# Altium schematic symbol library GeneralSchemaLibrary.SchLib: 212 symbols (part 1 of 2)
Pins are listed as number, name and electrical type; pins without a type are passive.

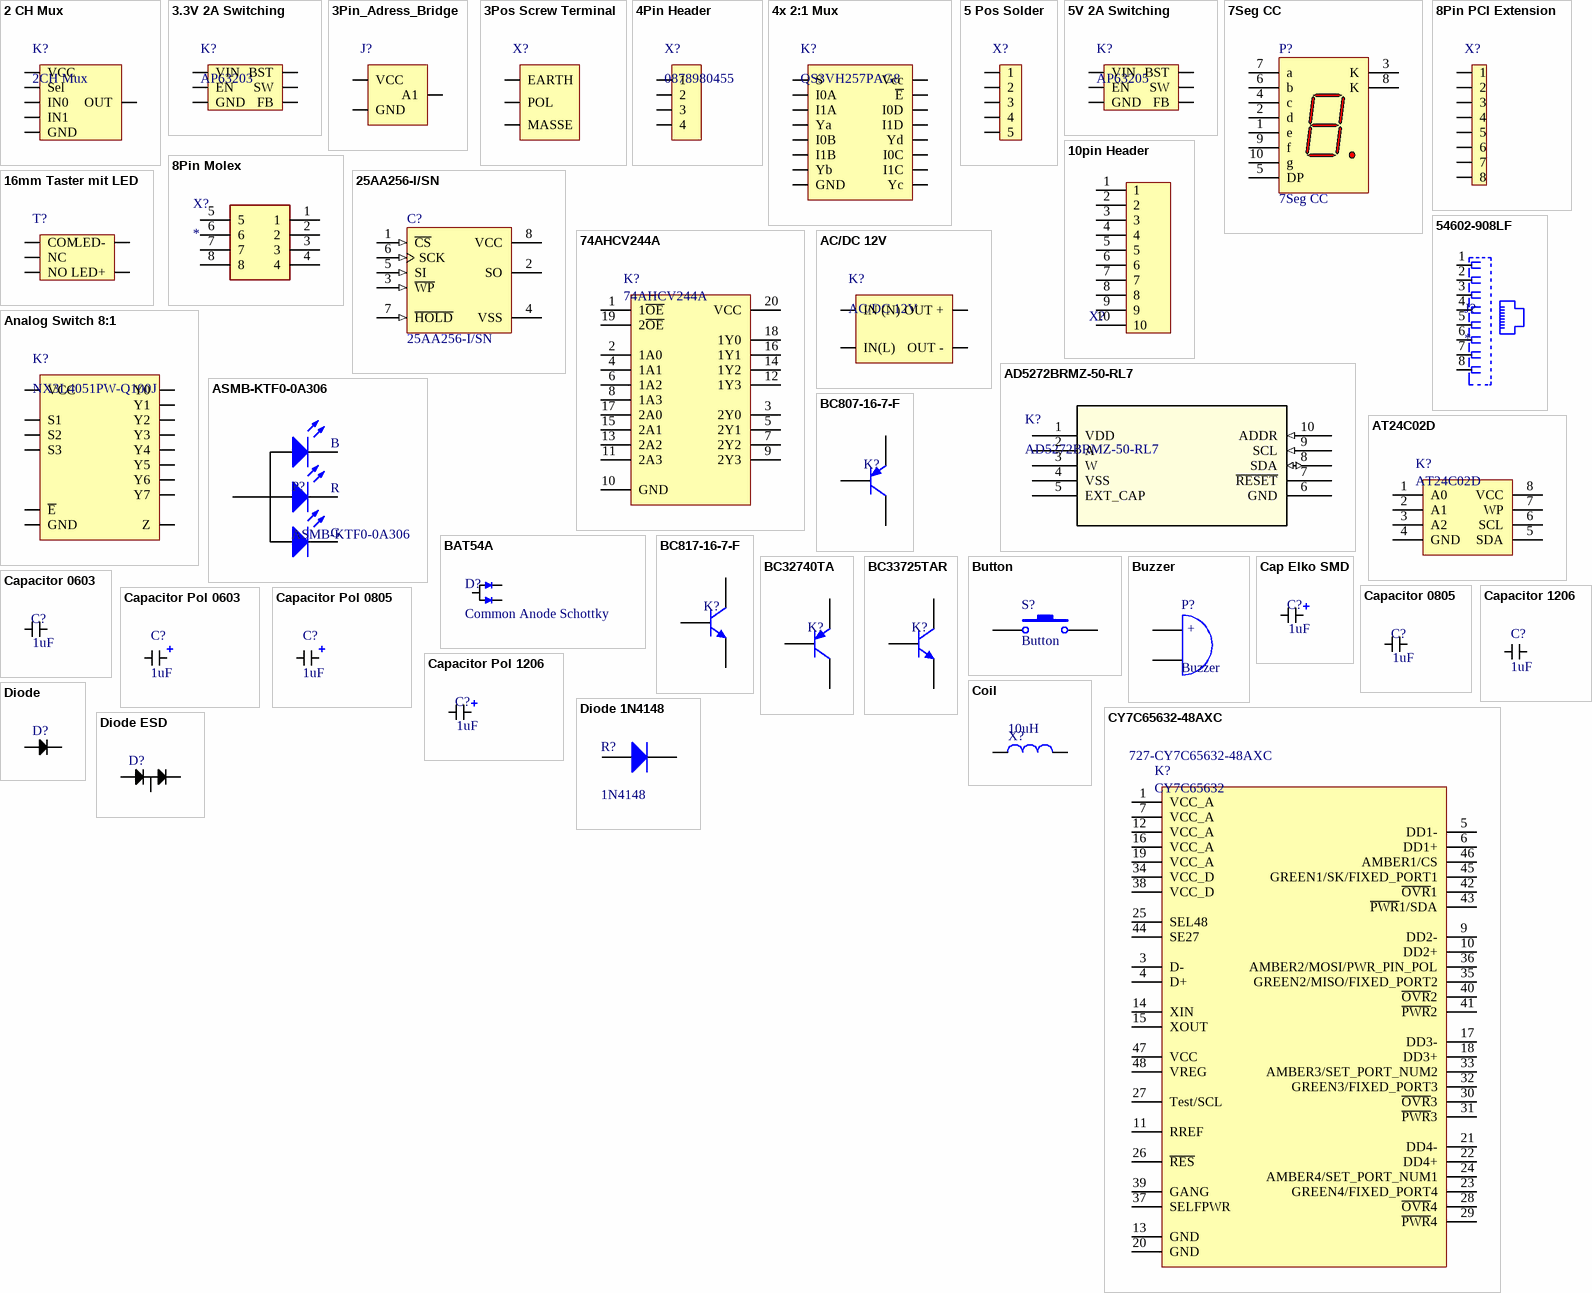
[diagram p0: symbols 2 CH Mux to Diode ESD]

## 2 CH Mux
designator K?, comment 2CH Mux
1727-3490-1-ND
footprint TSOP-6
pins: 1 IN1, 2 GND, 3 IN0, 4 OUT, 5 VCC, 6 Sel

## 3.3V 2A Switching
designator K?, comment AP63203
footprint TSOT26
pins: 1 FB, 2 EN, 3 VIN, 4 GND, 5 SW, 6 BST

## 3Pin_Adress_Bridge
designator J?  (value not drawn)
footprint Address_Bridge
pins: 1 VCC, 2 GND, 3 A1

## 3Pos Screw Terminal
designator X?  (value not drawn)
277-1578-ND
footprint 3Pos Screw Terminal
pins: 1 EARTH, 2 POL, 3 MASSE

## 4Pin Header
designator X?, comment 0878980455
4Pin SMD Header
footprint 4Pin_Header
pins: 1, 2, 3, 4

## 4x 2:1 Mux
designator K?, comment QS3VH257PAG8
footprint TSSOP-16 H (TSSOP-16 for hand soldering)
pins: 1 S, 2 I0A, 3 I1A, 4 Ya, 5 I0B, 6 I1B, 7 Yb, 8 GND, 9 Yc, 10 I1C, 11 I0C, 12 Yd, 13 I1D, 14 I0D, 15 ~{E}, 16 Vcc

## 5 Pos Solder
designator X?, comment Solder Pins on PCB  (value not drawn)
pins: 1, 2, 3, 4, 5

## 5V 2A Switching
designator K?, comment AP63205
footprint TSOT26
pins: 1 FB, 2 EN, 3 VIN, 4 GND, 5 SW, 6 BST

## 7Seg CC
designator P?
Green 7-Segment Display; MinimumIntensity: 860 ucd; Note: IF = 10 mA; Note: Pins 1 and 6 are redundant Cathodes.; Published: 8-Jun-2000; LatestRevisionDate: 17-Dec-2003; LatestRevisionNote: Schematic revised, PCB Footprint replaced.; DatasheetDocument: ##########; PackageDocument: 19-Feb-2002; PackageReference: A; Publisher: Altium Limited; Colour: Green; ComponentLink1Description: Manufacturer Link; ComponentLink1URL: http://www.semiconductor.agilent.com/
simulation model HDSP_A513 (SUBCKT)
footprint 7Seg
pins: 1 e "Anode", 2 d "Anode", 3 K "Cathode", 4 c "Anode", 5 DP "Anode", 6 b "Anode", 7 a "Anode", 8 K "Cathode", 9 f "Anode", 10 g "Anode"

## 8Pin Molex
designator X?
Connector; Manufacturer_Name: Molex; Manufacturer_Part_Number: 45586-0005; Datasheet Link: https://www.mouser.ca/datasheet/2/276/455860005_sd-1360086.pdf; Height: 10.38mm
footprint 8Pin Molex
pins: 1, 2, 3, 4, 5, 6, 7, 8

## 8Pin PCI Extension
designator X?  (value not drawn)
footprint 8 Pos PCI
pins: 1, 2, 3, 4, 5, 6, 7, 8

## 10pin Header
designator X?  (value not drawn)
SMD
footprint 10P_Header
pins: 1, 2, 3, 4, 5, 6, 7, 8, 9, 10

## 16mm Taster mit LED
designator T?  (value not drawn)
footprint Phoenix 5Pos Header (MFR. 1778803)
pins: 1 COM, 2 NC, 3 NO, 4 LED-, 5 LED+

## 25AA256-I/SN
designator C?
256K SPI Bus Serial EEPROM, 8-Pin SOIC, Industrial Temperature; Published: 29-Jan-2009; DatasheetVersion: revF, May-2007; PackageVersion: revBB, Aug-2009; PackageReference: SOIC-SN8; Publisher: Altium Limited; PackageDescription: 8-Lead Plastic Small Outline (SN) - Narrow, 3.90mm Body [SOIC]; Supplier 1: Digi-Key; Supplier Part Number 1: 25AA256-I/SN-ND; Supplier 2: Farnell; Supplier Part Number 2: 1331368; Code_JEDEC: MS-012; Code_IPC: SOIC127P600-8; ComponentLink1Description: Datasheet; ComponentLink1URL: http://ww1.microchip.com/downloads/en/DeviceDoc/21822F.pdf; ComponentLink2Description: Packaging Specification; ComponentLink2URL: http://www.microchip.com/stellent/groups/techpub_sg/documents/packagingspec/en012702.pdf; ComponentLink3Description: Microchip.com Home; ComponentLink3URL: http://www.microchip.com/
footprint SO-8 (Small Outline; 8 Leads; Body Width 3.9 mm; Pitch 1.27 mm)
pins: 1 ~{CS} (in), 2 SO (hiz), 3 ~{WP} (in), 4 VSS (power), 5 SI (in), 6 SCK (in), 7 ~{HOLD} (in), 8 VCC (power)

## 74AHCV244A
designator K?
8 Port line driver; Supplier 1: Mouser; Supplier Part Number 1: 771-74AHCV244APWJ
footprint TSSOP-20 H (TSSOP-20 for hand soldering)
pins: 1 1~{OE}, 2 1A0, 3 2Y0, 4 1A1, 5 2Y1, 6 1A2, 7 2Y2, 8 1A3, 9 2Y3, 10 GND, 11 2A3, 12 1Y3, 13 2A2, 14 1Y2, 15 2A1, 16 1Y1, 17 2A0, 18 1Y0, 19 2~{OE}, 20 VCC

## 54602-908LF
designator J?
Jack Modular Connector 8p8c _RJ45, Ethernet_ 90Â° Angle _Right_ Unshielded Cat3; MP: 54602-908LF; MF: Amphenol ICC; Value: *; SnapEDA_Link: https://www.snapeda.com/parts/54602-908LF/Amphenol%20FCI/view-part/1356963/?ref=snap; Digi-Key_Purchase_URL: https://www.digikey.com.mx/product-detail/en/amphenol-icc-fci/54602-908LF/609-1046-ND/1001360?utm_source=snapeda&utm_medium=aggregator&utm_campaign=symbol; Digi-Key_Part_Number: 609-1046-ND; Package: None
footprint AMPHENOL_54602-908LF
pins: 1, 2, 3, 4, 5, 6, 7, 8

## AC/DC 12V
designator K?
230V AC / 12V DC / 945-3246-ND
footprint AC/DC 12V
pins: 1 IN (N), 2 IN(L), 4 OUT -, 5 OUT +

## AD5272BRMZ-50-RL7
designator K?
I2C Rheostat; Built_By: EMA_Jessica; Vendor: Analog Devices Inc; SourceLibrary: Analog_2019-03-01; Copyright: Copyright (C) 2018 Accelerated Designs. All rights reserved; Manufacturer_Part_Number: AD5272BRMZ-50-RL7; RefDes: RefDes; Type: DEV
footprint 10-MSOP
pins: 1 VDD (power), 2 A, 3 W, 4 VSS (power), 5 EXT_CAP, 6 GND (power), 7 ~{RESET}, 8 SDA (io), 9 SCL (in), 10 ADDR (in)

## Analog Switch 8:1
designator K?, comment NX3L4051PW-Q100J
footprint TSSOP-16 H (TSSOP-16 for hand soldering)
pins: 1 Y4, 2 Y6, 3 Z, 4 Y7, 5 Y5, 6 ~{E}, 7 NC hidden, 8 GND, 9 S3, 10 S2, 11 S1, 12 Y3, 13 Y0, 14 Y1, 15 Y2, 16 VCC

## ASMB-KTF0-0A306
designator P?
RGB LED SMD; LatestRevisionDate: 03.04.2019; Publisher: ICT Berufsbildungscenter AG; Supplier 1: Mouser; Supplier Part Number 1: 630-ASMB-KTF0-0A306
footprint LED ASMB-KTF0-0A306 H (ASMB-KTF0-0A306  SMD RGB LED for hand soldering)
pins: 1 Common Anode, 2 Red Cathode, 3 Green Cathode, 4 Blue Cathode
text: B; R; G

## AT24C02D
designator K?
EEPROM 2kbit I2C; Supplier 1: Mouser; Supplier Part Number 1: 556-AT24C02D-SSHM-B
footprint SOIC-8 N H (Narrow (150mil) SOIC with 8 pins for hand soldering)
pins: 1 A0, 2 A1, 3 A2, 4 GND, 5 SDA, 6 SCL, 7 WP, 8 VCC

## BAT54A
designator D?, comment Common Anode Schottky
20V
footprint SOT23-3
pins: 1, 2, 3

## BC807-16-7-F
designator K?  (value not drawn)
Transistor PNP in SOT23-3 package; Supplier 1: Mouser; Supplier Part Number 1: 621-BC807-16-7-F
footprint SOT23-3
pins: 1 B, 2 E, 3 C

## BC817-16-7-F
designator K?  (value not drawn)
Transistor NPN in SOT23-3 package; Supplier 1: Mouser; Supplier Part Number 1: 621-BC817-16-7-F
footprint SOT23-3
pins: 1 B, 2 E, 3 C

## BC32740TA
designator K?  (value not drawn)
Transistor PNP in TO-92 package; Supplier 1: Mouser; Supplier Part Number 1: 512-BC32740TA
footprint TO-92
pins: 1 C, 2 B, 3 E

## BC33725TAR
designator K?  (value not drawn)
Transistor NPN in TO-92 package; Supplier 1: Mouser; Supplier Part Number 1: 512-BC33725TAR
footprint TO-92
pins: 1 C, 2 B, 3 E

## Button
designator S?
Published: 04.10.2019; LatestRevisionDate: 04.10.2019; Publisher: ICT Berufsbildungscenter AG
pins: 1, 2

## Buzzer
designator P?
Piezo Buzzer; Published: 03.10.2019; LatestRevisionDate: 03.10.2019; Publisher: ICT Berufsbildungscenter AG
footprint Buzzer THT 6.5mm (piezo buzzer / tht mount / 3.5mm pitch)
pins: 1 A, 2 B
text: +

## Cap Elko SMD
designator C?  value 1uF
footprint CAP ELKO G H (aluminium electrolytic capacitor surface mount case G)
footprint CAP ELKO B H (aluminium electrolytic capacitor surface mount case B)
footprint CAP ELKO D H (aluminium electrolytic capacitor surface mount case D)
footprint CAP ELKO K16 H (aluminium electrolytic capacitor surface mount case K16)
pins: 1, 2

## Capacitor 0603
designator C?  value 1uF
footprint CAP CER 0603 H (0603 ceramic capacitor for hand soldering)
pins: 1, 2

## Capacitor 0805
designator C?  value 1uF
footprint CAP CER 0805 H (0805 ceramic capacitor for hand soldering)
pins: 1, 2

## Capacitor 1206
designator C?  value 1uF
footprint CAP CER 1206 H (1206 ceramic capacitor for hand soldering)
pins: 1, 2

## Capacitor Pol 0603
designator C?  value 1uF
footprint 0603 Pol
pins: 1, 2

## Capacitor Pol 0805
designator C?  value 1uF
footprint 0805 Pol
pins: 1, 2

## Capacitor Pol 1206
designator C?  value 1uF
footprint 1206 Pol
pins: 1, 2

## Coil
designator X?  value 10uH  (hidden comment: *)
footprint Ind 4.7uH (SMD)
footprint IND 33uH
pins: 1, 2

## CY7C65632-48AXC
designator K?, comment CY7C65632  Supplier Part Number 1: 727-CY7C65632-48AXC
4 port usb hub; Supplier 1: Mouser
footprint TQFP 48
pins: 1 VCC_A, 3 D-, 4 D+, 5 DD1-, 6 DD1+, 7 VCC_A, 9 DD2-, 10 DD2+, 11 RREF, 12 VCC_A, 13 GND, 14 XIN, 15 XOUT, 16 VCC_A, 17 DD3-, 18 DD3+, 19 VCC_A, 20 GND, 21 DD4-, 22 DD4+, 23 GREEN4/FIXED_PORT4, 24 AMBER4/SET_PORT_NUM1, 25 SEL48, 26 ~{RES}, 27 Test/SCL, 28 ~{OVR}4, 29 ~{PWR}4, 30 ~{OVR}3, 31 ~{PWR}3, 32 GREEN3/FIXED_PORT3, 33 AMBER3/SET_PORT_NUM2, 34 VCC_D, 35 GREEN2/MISO/FIXED_PORT2, 36 AMBER2/MOSI/PWR_PIN_POL, 37 SELFPWR, 38 VCC_D, 39 GANG, 40 ~{OVR}2, 41 ~{PWR}2, 42 ~{OVR}1, 43 ~{PWR}1/SDA, 44 SE27, 45 GREEN1/SK/FIXED_PORT1, 46 AMBER1/CS, 47 VCC, 48 VREG

## Diode
designator D?  (value not drawn)
footprint SOD-123
pins: 1, 2

## Diode 1N4148
designator R?, comment 1N4148
Diode 1N4148; Published: 8-Jun-2000; LatestRevisionDate: 17-Jul-2002; LatestRevisionNote: Re-released for DXP Platform.; PackageVersion: Sep-1996; PackageReference: SMC; Publisher: Altium Limited; PackageDescription: DO-214-AB/SMC; 2 C-Bend Leads; Body 7.9 x 5.9 mm, inc. leads (LxW); Code_JEDEC: DO-214-AB
footprint SOD-123
pins: 1 A, 2 K

## Diode ESD
designator D?  (value not drawn)
BAV199 SOT-23-3
footprint SOT23-3
pins: 1, 2, 3

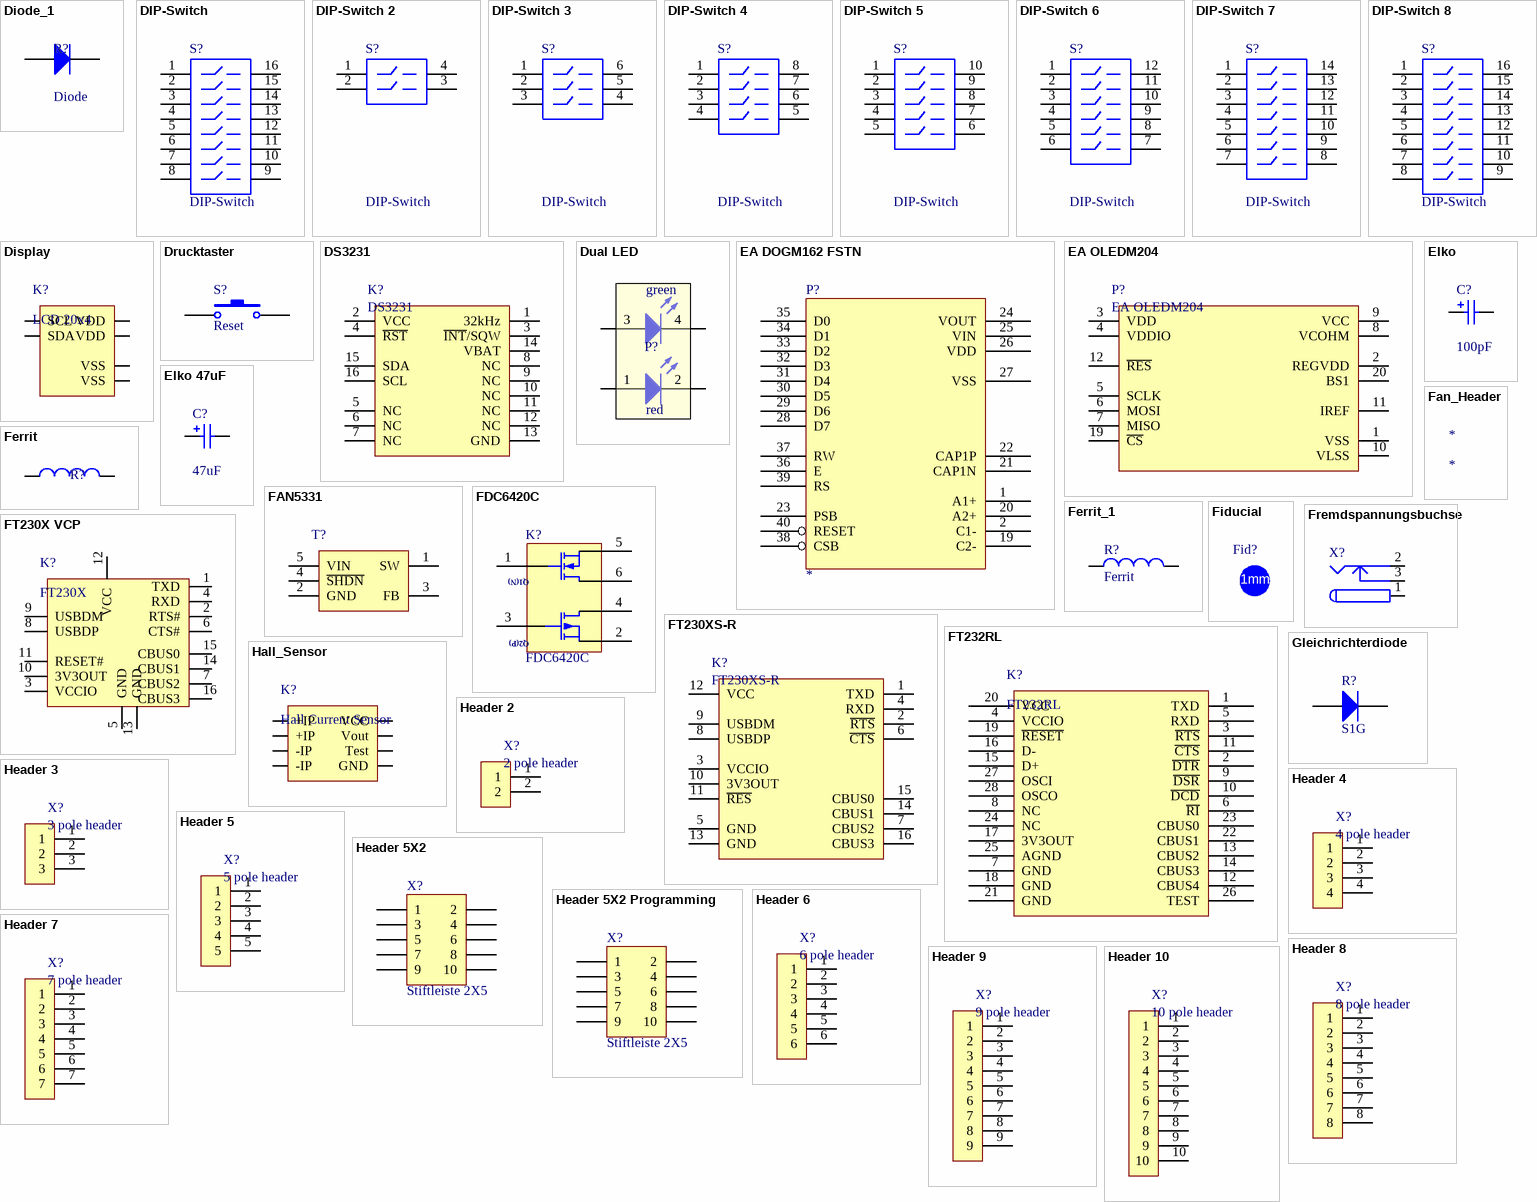
[diagram p1: symbols Diode_1 to Header 10]

## Diode_1
designator R?, comment Diode
LatestRevisionDate: 03.04.2019; Publisher: ICT Berufsbildungscenter AG
footprint Diode 5mm (Diode for tht mounting with a 5mm pitch)
footprint Diode 7.5mm (Diode for tht mounting with a 7.5mm pitch)
footprint Diode 10mm (Diode for tht mounting with a 10mm pitch)
footprint Diode 12.5mm (Diode for tht mounting with a 12.5mm pitch)
footprint Diode SOD123 H (Diode in SOD123 Case for hand soldering)
footprint Diode SOD123 R (Diode in SOD123 Case for reflow soldering)
footprint Diode DO-214AA SMB H (Diode in DO-214AA (same as SMB) package for hand soldering)
footprint Diode DO-214AB SMC H (Diode in DO-214AB (same as SMC) package for hand soldering)
footprint Diode DO-214AC SMA H (Diode in DO-214AC (same as SMA) package for hand soldering)
footprint Diode DO-214AA SMB R (Diode in DO-214AA (same as SMB) package for reflow soldering)
footprint Diode DO-214AB SMC R (Diode in DO-214AB (same as SMC) package for reflow soldering)
footprint Diode DO-214AC SMA R (Diode in DO-214AC (same as SMA) package for reflow soldering)
pins: A Anode, C Cathode

## DIP-Switch
designator S?
4009 Series DIP Switch, Raised actuator; Published: 24-Mar-1999; LatestRevisionDate: 17-Dec-2003; LatestRevisionNote: PCB Footprint replaced.; PackageReference: DIP-16-KEY; Publisher: Altium Limited; PackageDescription: DIP; 16 Leads; Row Spacing 7.62 mm; Pitch 2.54 mm; ComponentLink1Description: Manufacturer Link; ComponentLink1URL: http://www.oupiin.com/prodindx.html#Headers
simulation model dpsw8 (Spice Subcircuit)
footprint DIP-SWITCH
pins: 1, 2, 3, 4, 5, 6, 7, 8, 9, 10, 11, 12, 13, 14, 15, 16

## DIP-Switch 2
designator S?, comment DIP-Switch
Dip Switch with 2 switches; Published: 03.10.2019; LatestRevisionDate: 03.10.2019; Publisher: ICT Berufsbildungscenter AG; ComponentLink1Description: Manufacturer Link; ComponentLink1URL: http://www.oupiin.com/prodindx.html#Headers
footprint DIP Switch SMD 2 H (Dipswitch for surface mount / hand soldering)
pins: 1, 2, 3, 4

## DIP-Switch 3
designator S?, comment DIP-Switch
Dip Switch with 3 switches; Published: 03.10.2019; LatestRevisionDate: 03.10.2019; Publisher: ICT Berufsbildungscenter AG; ComponentLink1Description: Manufacturer Link; ComponentLink1URL: http://www.oupiin.com/prodindx.html#Headers
footprint DIP Switch SMD 3 H (Dipswitch for surface mount / hand soldering)
pins: 1, 2, 3, 4, 5, 6

## DIP-Switch 4
designator S?, comment DIP-Switch
Dip Switch with 4 switches; Published: 03.10.2019; LatestRevisionDate: 03.10.2019; Publisher: ICT Berufsbildungscenter AG; ComponentLink1Description: Manufacturer Link; ComponentLink1URL: http://www.oupiin.com/prodindx.html#Headers
footprint DIP Switch SMD 4 H (Dipswitch for surface mount / hand soldering)
pins: 1, 2, 3, 4, 5, 6, 7, 8

## DIP-Switch 5
designator S?, comment DIP-Switch
Dip Switch with 5 switches; Published: 03.10.2019; LatestRevisionDate: 03.10.2019; Publisher: ICT Berufsbildungscenter AG; ComponentLink1Description: Manufacturer Link; ComponentLink1URL: http://www.oupiin.com/prodindx.html#Headers
footprint DIP Switch SMD 5 H (Dipswitch for surface mount / hand soldering)
pins: 1, 2, 3, 4, 5, 6, 7, 8, 9, 10

## DIP-Switch 6
designator S?, comment DIP-Switch
Dip Switch with 6 switches; Published: 03.10.2019; LatestRevisionDate: 03.10.2019; Publisher: ICT Berufsbildungscenter AG; ComponentLink1Description: Manufacturer Link; ComponentLink1URL: http://www.oupiin.com/prodindx.html#Headers
footprint DIP Switch SMD 6 H (Dipswitch for surface mount / hand soldering)
pins: 1, 2, 3, 4, 5, 6, 7, 8, 9, 10, 11, 12

## DIP-Switch 7
designator S?, comment DIP-Switch
Dip Switch with 7 switches; Published: 03.10.2019; LatestRevisionDate: 03.10.2019; Publisher: ICT Berufsbildungscenter AG; ComponentLink1Description: Manufacturer Link; ComponentLink1URL: http://www.oupiin.com/prodindx.html#Headers
footprint DIP Switch SMD 7 H (Dipswitch for surface mount / hand soldering)
pins: 1, 2, 3, 4, 5, 6, 7, 8, 9, 10, 11, 12, 13, 14

## DIP-Switch 8
designator S?, comment DIP-Switch
Dip Switch with 8 switches; Published: 03.10.2019; LatestRevisionDate: 03.10.2019; Publisher: ICT Berufsbildungscenter AG; ComponentLink1Description: Manufacturer Link; ComponentLink1URL: http://www.oupiin.com/prodindx.html#Headers
footprint DIP Switch SMD 8 H (Dipswitch for surface mount / hand soldering)
pins: 1, 2, 3, 4, 5, 6, 7, 8, 9, 10, 11, 12, 13, 14, 15, 16

## Display
designator K?, comment LCD 20x4
NHD-0420D3Z-NSW-BBW-V3
footprint Phoenix 4Pos Header (MFR. 1778780)
pins: 1 SCL, 2 SDA, 3 VSS, 3 VSS "NHD-0420D3Z-NSW-BBW-V3", 4 VDD, 4 VDD

## Drucktaster
designator S?, comment Reset
Drucktaster; Published: 24-Mar-1999; LatestRevisionDate: 17-Jul-2002; LatestRevisionNote: Re-released for DXP Platform.; PackageReference: SPST-2; Publisher: Altium Limited; PackageDescription: Switch; 2 Leads
footprint Resettaster
pins: 1, 2

## DS3231
designator K?
Real Time Clock; Supplier 1: Farnell; Supplier 2: Mouser; Supplier Part Number 1: 2798760; Supplier Part Number 2: 700-DS3231SN#T&R-
footprint SOIC-16 W H (Wide (300mil) SOIC with 16 pins for hand soldering)
pins: 1 32kHz, 2 VCC, 3 ~{INT}/SQW, 4 ~{RST}, 5 NC, 6 NC, 7 NC, 8 NC, 9 NC, 10 NC, 11 NC, 12 NC, 13 GND, 14 VBAT, 15 SDA, 16 SCL

## Dual LED
designator P?, comment Dual-LED Rot/Grün  (value not drawn)
Typical INFRARED GaAs LED; Published: 8-Jun-2000; LatestRevisionDate: 08-Jul-2005; LatestRevisionNote: Mech Layer 1 removed.; PackageReference: LED-0; Publisher: Altium Limited; PackageDescription: LED; 2 Leads
simulation model LED0 (Diode)
footprint DUAL LED
pins: 1 A, 2 K, 3 A, 4 K
text: green; red

## EA DOGM162 FSTN
designator P?
footprint EA DOGMxxx-A
pins: 1 A1+, 2 C1-, 19 C2-, 20 A2+, 21 CAP1N, 22 CAP1P, 23 PSB, 24 VOUT, 25 VIN, 26 VDD, 27 VSS, 28 D7, 29 D6, 30 D5, 31 D4, 32 D3, 33 D2, 34 D1, 35 D0, 36 E, 37 RW, 38 CSB, 39 RS, 40 RESET

## EA OLEDM204
designator P?
4x20 OLED Textdisplay; Publisher: ICT Berufsbildungscenter AG; LatestRevisionDate: 03.10.2019; Published: 03.10.2019; Supplier 1: Distrelec; Supplier Part Number 1: 30117338
footprint EA OLEDM204
pins: 1 VSS, 2 REGVDD, 3 VDD, 4 VDDIO, 5 SCLK, 6 MOSI, 7 MISO, 8 VCOHM, 9 VCC, 10 VLSS, 11 IREF, 12 ~{RES}, 19 ~{CS}, 20 BS1

## Elko
designator C?  value 100pF
Polarized Capacitor; Published: 8-Jun-2000; LatestRevisionDate: 17-Jul-2002; LatestRevisionNote: Re-released for DXP Platform.; PackageReference: POLAR0.8; Publisher: Altium Limited; PackageDescription: Polarized Capacitor; 2 Leads
simulation model CAP (Capacitor)
signal-integrity model Cap Pol
footprint C_Tantal_A
pins: 1, 2

## Elko 47uF
designator C?  value 47uF
Polarized Capacitor; Published: 8-Jun-2000; LatestRevisionDate: 17-Jul-2002; LatestRevisionNote: Re-released for DXP Platform.; PackageReference: POLAR0.8; Publisher: Altium Limited; PackageDescription: Polarized Capacitor; 2 Leads
simulation model CAP (Capacitor)
signal-integrity model Cap Pol
footprint C_Tantal_D
pins: 1, 2

## FAN5331
designator T?  (value not drawn)
Boost Converter with configurable output voltage; Supplier 1: Mouser; Supplier 2: Farnell; Supplier Part Number 1: 512-FAN5331SX; Supplier Part Number 2: 1858084
footprint SOT23-5
pins: 1 SW, 2 GND, 3 FB, 4 ~{SHDN}, 5 VIN

## Fan_Header
designator *

## FDC6420C
designator K?
DUAL FET
footprint SOT23-6 (SOT-23/SC-74A; 5 Leads; Body 3.1 x 3 mm, inc. leads (LxW max))
pins: 1 G, 2 S, 3 G, 4 D, 5 S, 6 S
text: Q1(N); Q2(P)

## Ferrit
designator R?  (value not drawn)
LatestRevisionDate: 26.09.2019; Publisher: ICT Berufsbildungscenter AG; Published: 03.10.2019
pins: 1, 2

## Ferrit_1
designator R?, comment Ferrit
Spule; Code_IEC: 1005; Value: 100uH; Published: 8-Jun-2000; LatestRevisionDate: 29-May-2009; LatestRevisionNote: IPC-7351 Footprint Added.; PackageReference: 0402-A; Publisher: Altium Limited; PackageDescription: Chip Inductor; Code_JEITA: 0402
footprint Cap 0805
pins: 1, 2

## Fiducial
designator Fid?  (value not drawn)
Fiducial
footprint Fiducial
text: 1mm

## Fremdspannungsbuchse
designator X?  (value not drawn)
Published: 17-Dec-2003; DatasheetDocument: 09-May-2002; Publisher: Altium Limited; ComponentLink1Description: Manufacturer Link; ComponentLink1URL: http://domino.kycon.com/internet/Products.html
footprint Spannungsbuchse
pins: 1 (power), 2 (power), 3 (power)

## FT230X VCP
designator K?, comment FT230X
pins: 1 TXD, 2 RTS#, 3 VCCIO, 4 RXD, 5 GND, 6 CTS#, 7 CBUS2, 8 USBDP, 9 USBDM, 10 3V3OUT, 11 RESET#, 12 VCC, 13 GND, 14 CBUS1, 15 CBUS0, 16 CBUS3

## FT230XS-R
designator K?
USB - UART converter; Supplier 1: Mouser; Supplier Part Number 1: 895-FT230XS-R
footprint TSSOP-16 H (TSSOP-16 for hand soldering)
pins: 1 TXD, 2 ~{RTS}, 3 VCCIO, 4 RXD, 5 GND, 6 ~{CTS}, 7 CBUS2, 8 USBDP, 9 USBDM, 10 3V3OUT, 11 ~{RES}, 12 VCC, 13 GND, 14 CBUS1, 15 CBUS0, 16 CBUS3

## FT232RL
designator K?
footprint SSOP-28 H (SSOP-28 for hand soldering)
pins: 1 TXD, 2 ~{DTR}, 3 ~{RTS}, 4 VCCIO, 5 RXD, 6 ~{RI}, 7 GND, 8 NC, 9 ~{DSR}, 10 ~{DCD}, 11 ~{CTS}, 12 CBUS4, 13 CBUS2, 14 CBUS3, 15 D+, 16 D-, 17 3V3OUT, 18 GND, 19 ~{RESET}, 20 VCC, 21 GND, 22 CBUS1, 23 CBUS0, 24 NC, 25 AGND, 26 TEST, 27 OSCI, 28 OSCO

## Gleichrichterdiode
designator R?, comment S1G
Gleichrichterdiode; Published: 8-Jun-2000; LatestRevisionDate: 17-Jul-2002; LatestRevisionNote: Re-released for DXP Platform.; PackageVersion: Sep-1996; PackageReference: SMC; Publisher: Altium Limited; PackageDescription: DO-214-AB/SMC; 2 C-Bend Leads; Body 7.9 x 5.9 mm, inc. leads (LxW); Code_JEDEC: DO-214-AB
footprint DO-214
pins: 1 A, 2 K

## Hall_Sensor
designator K?, comment Hall Current Sensor
ACS723LLCTR-20AB-T
footprint SOIC - 8 Hall Sensor (ACS724LLCTR-20AB-T)
pins: 1 +IP, 2 +IP, 3 -IP, 4 -IP, 5 GND, 6 Test, 7 Vout, 8 VCC, 9

## Header 2
designator X?, comment 2 pole header
board to board header; LatestRevisionDate: 02.05.2019; Publisher: ICT Berufsbildungscenter AG
footprint Header THT female 1x2 (header for tht mounting / pitch = 2.54mm)
footprint Header THT female 1x2 RA (right angled header for tht mounting / pitch = 2.54mm)
footprint Header THT male 1x2 (header for tht mounting / pitch = 2.54mm)
footprint Header THT male 1x2 RA (right angle header for tht mounting / pitch = 2.54mm)
footprint Header SMD Male 1x2 R (male header for smd mounting / pitch = 2.54mm / reflow soldering)
footprint Header SMD Male 2x1 R (male header for smd mounting / pitch = 2.54mm / reflow soldering)
footprint Header SMD Male 1x2 H (male header for smd mounting / pitch = 2.54mm / hand soldering)
footprint Header SMD Male 2x1 H (male header for smd mounting / pitch = 2.54mm / hand soldering)
footprint Header SMD Male 1x2 RA H (right angled male header for smd mounting / pitch = 2.54mm / hand soldering)
pins: 1, 2

## Header 3
designator X?, comment 3 pole header
board to board header; LatestRevisionDate: 02.05.2019; Publisher: ICT Berufsbildungscenter AG
footprint Header THT female 1x3 (header for tht mounting / pitch = 2.54mm)
footprint Header THT female 1x3 RA (right angled header for tht mounting / pitch = 2.54mm)
footprint Header THT male 1x3 (header for tht mounting / pitch = 2.54mm)
footprint Header THT male 1x3 RA (right angle header for tht mounting / pitch = 2.54mm)
footprint Header SMD Male 1x3 R (male header for smd mounting / pitch = 2.54mm / reflow soldering)
footprint Header SMD Male 1x3 H (male header for smd mounting / pitch = 2.54mm / hand soldering)
footprint Header SMD Male 1x3 RA H (right angled male header for smd mounting / pitch = 2.54mm / hand soldering)
pins: 1, 2, 3

## Header 4
designator X?, comment 4 pole header
board to board header; LatestRevisionDate: 02.05.2019; Publisher: ICT Berufsbildungscenter AG
footprint Header THT female 1x4 (header for tht mounting / pitch = 2.54mm)
footprint Header THT female 1x4 RA (right angled header for tht mounting / pitch = 2.54mm)
footprint Header THT female 2x2 (header for tht mounting / pitch = 2.54mm)
footprint Header THT female 2x2 RA (right angled header for tht mounting / pitch = 2.54mm)
footprint Header THT male 1x4 RA (right angle header for tht mounting / pitch = 2.54mm)
footprint Header THT male 2x2 (header for tht mounting / pitch = 2.54mm)
footprint Header THT male 2x2 RA (right angle header for tht mounting / pitch = 2.54mm)
footprint Header THT male 1x4 (header for tht mounting / pitch = 2.54mm)
footprint Header SMD Male 1x4 R (male header for smd mounting / pitch = 2.54mm / reflow soldering)
footprint Header SMD Male 2x2 R (male header for smd mounting / pitch = 2.54mm / reflow soldering)
footprint Header SMD Male 1x4 H (male header for smd mounting / pitch = 2.54mm / hand soldering)
footprint Header SMD Male 2x2 H (male header for smd mounting / pitch = 2.54mm / hand soldering)
footprint Header SMD Male 1x4 RA H (right angled male header for smd mounting / pitch = 2.54mm / hand soldering)
pins: 1, 2, 3, 4

## Header 5
designator X?, comment 5 pole header
board to board header; LatestRevisionDate: 02.05.2019; Publisher: ICT Berufsbildungscenter AG
footprint Header THT female 1x5 (header for tht mounting / pitch = 2.54mm)
footprint Header THT female 1x5 RA (right angled header for tht mounting / pitch = 2.54mm)
footprint Header THT male 1x5 (header for tht mounting / pitch = 2.54mm)
footprint Header THT male 1x5 RA (right angle header for tht mounting / pitch = 2.54mm)
footprint Header SMD Male 1x5 R (male header for smd mounting / pitch = 2.54mm / reflow soldering)
footprint Header SMD Male 1x5 H (male header for smd mounting / pitch = 2.54mm / hand soldering)
footprint Header SMD Male 1x5 RA H (right angled male header for smd mounting / pitch = 2.54mm / hand soldering)
pins: 1, 2, 3, 4, 5

## Header 5X2
designator X?, comment Stiftleiste 2X5
Header, 5-Pin, Dual row; LatestRevisionDate: 17-Jul-2002; LatestRevisionNote: Re-released for DXP Platform.; Publisher: Altium Limited
footprint Stiftleiste 2x5 (Connector; Header; 5x2 Position)
pins: 1, 2, 3, 4, 5, 6, 7, 8, 9, 10

## Header 5X2 Programming
designator X?, comment Stiftleiste 2X5
Header, 5-Pin, Dual row; LatestRevisionDate: 17-Jul-2002; LatestRevisionNote: Re-released for DXP Platform.; Publisher: Altium Limited
footprint Stiftleiste 2x5 - Programming (Connector; Header; 5x2 Position)
pins: 1, 2, 3, 4, 5, 6, 7, 8, 9, 10

## Header 6
designator X?, comment 6 pole header
board to board header; LatestRevisionDate: 02.05.2019; Publisher: ICT Berufsbildungscenter AG
footprint Header THT female 1x6 (header for tht mounting / pitch = 2.54mm)
footprint Header THT female 1x6 RA (right angled header for tht mounting / pitch = 2.54mm)
footprint Header THT female 2x3 (header for tht mounting / pitch = 2.54mm)
footprint Header THT female 2x3 RA (right angled header for tht mounting / pitch = 2.54mm)
footprint Header THT male 1x6 (header for tht mounting / pitch = 2.54mm)
footprint Header THT male 1x6 RA (right angle header for tht mounting / pitch = 2.54mm)
footprint Header THT male 2x3 (header for tht mounting / pitch = 2.54mm)
footprint Header THT male 2x3 RA (right angle header for tht mounting / pitch = 2.54mm)
footprint Header SMD Male 1x6 H (male header for smd mounting / pitch = 2.54mm / hand soldering)
footprint Header SMD Male 1x6 R (male header for smd mounting / pitch = 2.54mm / reflow soldering)
footprint Header SMD Male 2x3 H (male header for smd mounting / pitch = 2.54mm / hand soldering)
footprint Header SMD Male 2x3 R (male header for smd mounting / pitch = 2.54mm / reflow soldering)
footprint Header SMD Male 1x6 RA H (right angled male header for smd mounting / pitch = 2.54mm / hand soldering)
pins: 1, 2, 3, 4, 5, 6

## Header 7
designator X?, comment 7 pole header
board to board header; LatestRevisionDate: 02.05.2019; Publisher: ICT Berufsbildungscenter AG
footprint Header THT female 1x7 (header for tht mounting / pitch = 2.54mm)
footprint Header THT female 1x7 RA (right angled header for tht mounting / pitch = 2.54mm)
footprint Header THT male 1x7 (header for tht mounting / pitch = 2.54mm)
footprint Header THT male 1x7 RA (right angle header for tht mounting / pitch = 2.54mm)
footprint Header SMD Male 1x7 H (male header for smd mounting / pitch = 2.54mm / hand soldering)
footprint Header SMD Male 1x7 R (male header for smd mounting / pitch = 2.54mm / reflow soldering)
footprint Header SMD Male 1x7 RA H (right angled male header for smd mounting / pitch = 2.54mm / hand soldering)
pins: 1, 2, 3, 4, 5, 6, 7

## Header 8
designator X?, comment 8 pole header
board to board header; LatestRevisionDate: 02.05.2019; Publisher: ICT Berufsbildungscenter AG
footprint Header THT female 1x8 (header for tht mounting / pitch = 2.54mm)
footprint Header THT female 1x8 RA (right angled header for tht mounting / pitch = 2.54mm)
footprint Header THT female 2x4 (header for tht mounting / pitch = 2.54mm)
footprint Header THT female 2x4 RA (right angled header for tht mounting / pitch = 2.54mm)
footprint Header THT male 1x8 (header for tht mounting / pitch = 2.54mm)
footprint Header THT male 1x8 RA (right angle header for tht mounting / pitch = 2.54mm)
footprint Header THT male 2x4 (header for tht mounting / pitch = 2.54mm)
footprint Header THT male 2x4 RA (right angle header for tht mounting / pitch = 2.54mm)
footprint Header SMD Male 1x8 H (male header for smd mounting / pitch = 2.54mm / hand soldering)
footprint Header SMD Male 1x8 R (male header for smd mounting / pitch = 2.54mm / reflow soldering)
footprint Header SMD Male 2x4 H (male header for smd mounting / pitch = 2.54mm / hand soldering)
footprint Header SMD Male 2x4 R (male header for smd mounting / pitch = 2.54mm / reflow soldering)
footprint Header SMD Male 1x8 RA H (right angled male header for smd mounting / pitch = 2.54mm / hand soldering)
pins: 1, 2, 3, 4, 5, 6, 7, 8

## Header 9
designator X?, comment 9 pole header
board to board header; LatestRevisionDate: 02.05.2019; Publisher: ICT Berufsbildungscenter AG
footprint Header THT female 1x9 (header for tht mounting / pitch = 2.54mm)
footprint Header THT female 1x9 RA (right angled header for tht mounting / pitch = 2.54mm)
footprint Header THT male 1x9 (header for tht mounting / pitch = 2.54mm)
footprint Header THT male 1x9 RA (right angle header for tht mounting / pitch = 2.54mm)
footprint Header SMD Male 1x9 H (male header for smd mounting / pitch = 2.54mm / hand soldering)
footprint Header SMD Male 1x9 R (male header for smd mounting / pitch = 2.54mm / reflow soldering)
footprint Header SMD Male 1x9 RA H (right angled male header for smd mounting / pitch = 2.54mm / hand soldering)
pins: 1, 2, 3, 4, 5, 6, 7, 8, 9

## Header 10
designator X?, comment 10 pole header
board to board header; LatestRevisionDate: 02.05.2019; Publisher: ICT Berufsbildungscenter AG
footprint Header THT female 2x5 (header for tht mounting / pitch = 2.54mm)
footprint Header THT female 2x5 RA (right angled header for tht mounting / pitch = 2.54mm)
footprint Header THT male 1x10 (header for tht mounting / pitch = 2.54mm)
footprint Header THT male 1x10 RA (right angle header for tht mounting / pitch = 2.54mm)
footprint Header THT male 2x5 (header for tht mounting / pitch = 2.54mm)
footprint Header THT male 2x5 RA (right angle header for tht mounting / pitch = 2.54mm)
footprint Header THT female 1x10 (header for tht mounting / pitch = 2.54mm)
footprint Header THT female 1x10 RA (right angled header for tht mounting / pitch = 2.54mm)
footprint Header SMD Male 1x10 H (male header for smd mounting / pitch = 2.54mm / hand soldering)
footprint Header SMD Male 1x10 R (male header for smd mounting / pitch = 2.54mm / reflow soldering)
footprint Header SMD Male 2x5 H (male header for smd mounting / pitch = 2.54mm / hand soldering / hand soldering)
footprint Header SMD Male 2x5 R (male header for smd mounting / pitch = 2.54mm / hand soldering / reflow soldering)
footprint Header SMD Male 1x10 RA H (right angled male header for smd mounting / pitch = 2.54mm / hand soldering)
pins: 1, 2, 3, 4, 5, 6, 7, 8, 9, 10

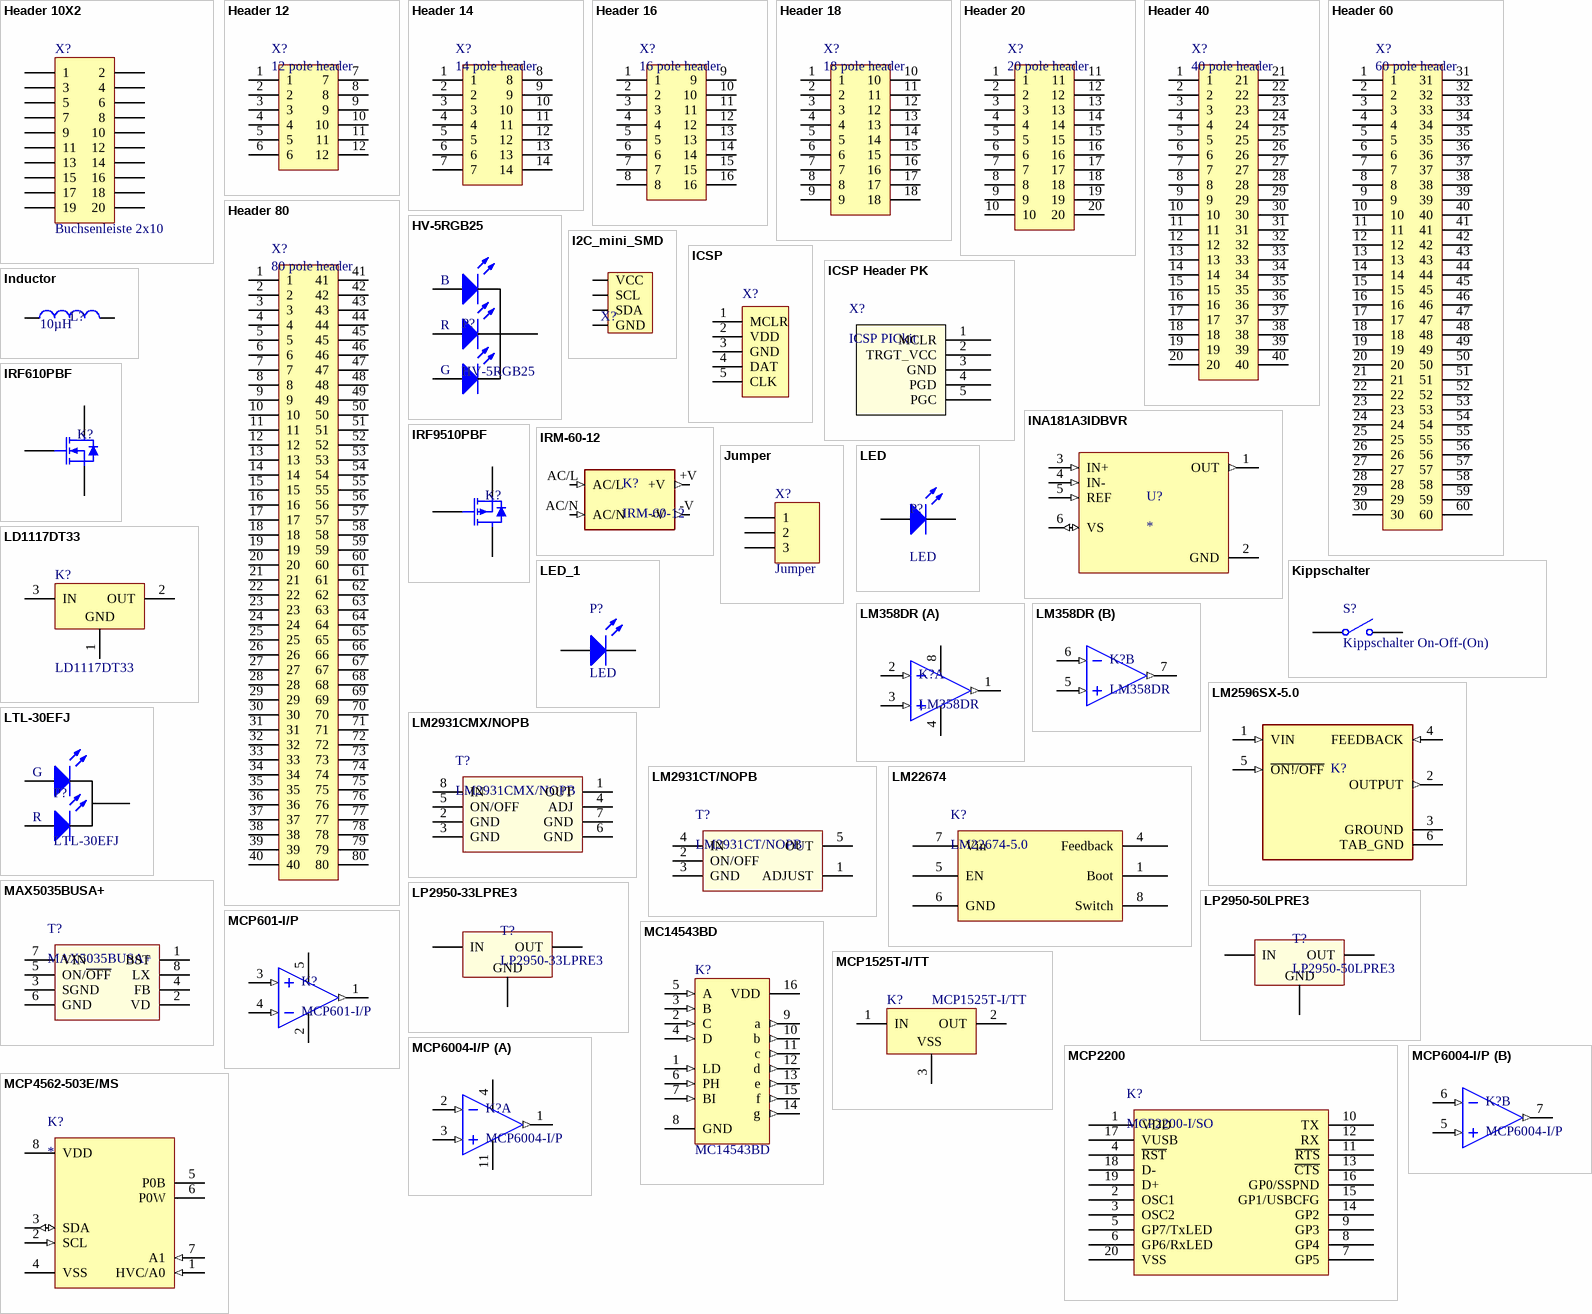
[diagram p2: symbols Header 10X2 to MCP6004-I/P]

## Header 10X2
designator X?, comment Buchsenleiste 2x10
Header, 10-Pin, Dual row; LatestRevisionDate: 17-Jul-2002; LatestRevisionNote: Re-released for DXP Platform.; Publisher: Altium Limited
signal-integrity model Connector
footprint Buchsenleiste 2X10 (Connector; Header; 10x2 Position)
pins: 1, 2, 3, 4, 5, 6, 7, 8, 9, 10, 11, 12, 13, 14, 15, 16, 17, 18, 19, 20

## Header 12
designator X?, comment 12 pole header
board to board header; LatestRevisionDate: 02.05.2019; Publisher: ICT Berufsbildungscenter AG
footprint Header THT female 2x6 (header for tht mounting / pitch = 2.54mm)
footprint Header THT female 2x6 RA (right angled header for tht mounting / pitch = 2.54mm)
footprint Header THT male 2x6 (header for tht mounting / pitch = 2.54mm)
footprint Header THT male 2x6 RA (right angle header for tht mounting / pitch = 2.54mm)
footprint Header SMD Male 2x6 H (male header for smd mounting / pitch = 2.54mm / hand soldering)
footprint Header SMD Male 2x6 R (male header for smd mounting / pitch = 2.54mm / reflow soldering)
pins: 1, 2, 3, 4, 5, 6, 7, 8, 9, 10, 11, 12

## Header 14
designator X?, comment 14 pole header
board to board header; LatestRevisionDate: 02.05.2019; Publisher: ICT Berufsbildungscenter AG
footprint Header THT female 2x7 (header for tht mounting / pitch = 2.54mm)
footprint Header THT female 2x7 RA (right angled header for tht mounting / pitch = 2.54mm)
footprint Header THT male 2x7 RA (right angle header for tht mounting / pitch = 2.54mm)
footprint Header THT male 2x7 (header for tht mounting / pitch = 2.54mm)
footprint Header SMD Male 2x7 H (male header for smd mounting / pitch = 2.54mm / hand soldering)
footprint Header SMD Male 2x7 R (male header for smd mounting / pitch = 2.54mm / reflow soldering)
pins: 1, 2, 3, 4, 5, 6, 7, 8, 9, 10, 11, 12, 13, 14

## Header 16
designator X?, comment 16 pole header
board to board header; LatestRevisionDate: 02.05.2019; Publisher: ICT Berufsbildungscenter AG
footprint Header THT female 2x8 (header for tht mounting / pitch = 2.54mm)
footprint Header THT female 2x8 RA (right angled header for tht mounting / pitch = 2.54mm)
footprint Header THT male 2x8 (header for tht mounting / pitch = 2.54mm)
footprint Header THT male 2x8 RA (right angle header for tht mounting / pitch = 2.54mm)
footprint Header SMD Male 2x8 H (male header for smd mounting / pitch = 2.54mm / hand soldering)
footprint Header SMD Male 2x8 R (male header for smd mounting / pitch = 2.54mm / reflow soldering)
pins: 1, 2, 3, 4, 5, 6, 7, 8, 9, 10, 11, 12, 13, 14, 15, 16

## Header 18
designator X?, comment 18 pole header
board to board header; LatestRevisionDate: 02.05.2019; Publisher: ICT Berufsbildungscenter AG
footprint Header THT female 2x9 (header for tht mounting / pitch = 2.54mm)
footprint Header THT female 2x9 RA (right angled header for tht mounting / pitch = 2.54mm)
footprint Header THT male 2x9 (header for tht mounting / pitch = 2.54mm)
footprint Header THT male 2x9 RA (right angle header for tht mounting / pitch = 2.54mm)
footprint Header SMD Male 2x9 H (male header for smd mounting / pitch = 2.54mm / hand soldering)
footprint Header SMD Male 2x9 R (male header for smd mounting / pitch = 2.54mm / reflow soldering)
pins: 1, 2, 3, 4, 5, 6, 7, 8, 9, 10, 11, 12, 13, 14, 15, 16, 17, 18

## Header 20
designator X?, comment 20 pole header
board to board header; LatestRevisionDate: 02.05.2019; Publisher: ICT Berufsbildungscenter AG
footprint Header THT female 2x10 (header for tht mounting / pitch = 2.54mm)
footprint Header THT female 2x10 RA (right angled header for tht mounting / pitch = 2.54mm)
footprint Header THT male 2x10 (header for tht mounting / pitch = 2.54mm)
footprint Header THT male 2x10 RA (right angle header for tht mounting / pitch = 2.54mm)
footprint Header SMD Male 2x10 H (male header for smd mounting / pitch = 2.54mm / hand soldering)
footprint Header SMD Male 2x10 R (male header for smd mounting / pitch = 2.54mm / reflow soldering)
pins: 1, 2, 3, 4, 5, 6, 7, 8, 9, 10, 11, 12, 13, 14, 15, 16, 17, 18, 19, 20

## Header 40
designator X?, comment 40 pole header
board to board header; LatestRevisionDate: 02.05.2019; Publisher: ICT Berufsbildungscenter AG
footprint Header THT female 2x20 (header for tht mounting / pitch = 2.54mm)
footprint Header THT female 2x20 RA (right angled header for tht mounting / pitch = 2.54mm)
footprint Header THT male 2x20 (header for tht mounting / pitch = 2.54mm)
footprint Header THT male 2x20 RA (right angle header for tht mounting / pitch = 2.54mm)
footprint Header SMD Male 2x20 H (male header for smd mounting / pitch = 2.54mm / hand soldering)
footprint Header SMD Male 2x20 R (male header for smd mounting / pitch = 2.54mm / reflow soldering)
pins: 1, 2, 3, 4, 5, 6, 7, 8, 9, 10, 11, 12, 13, 14, 15, 16, 17, 18, 19, 20, 21, 22, 23, 24, 25, 26, 27, 28, 29, 30, 31, 32, 33, 34, 35, 36, 37, 38, 39, 40

## Header 60
designator X?, comment 60 pole header
board to board header; LatestRevisionDate: 02.05.2019; Publisher: ICT Berufsbildungscenter AG
footprint Header SMD Male 2x30 H (male header for smd mounting / pitch = 2.54mm / hand soldering)
footprint Header SMD Male 2x30 R (male header for smd mounting / pitch = 2.54mm / reflow soldering)
footprint Header THT female 2x30 (header for tht mounting / pitch = 2.54mm)
footprint Header THT female 2x30 RA (right angled header for tht mounting / pitch = 2.54mm)
footprint Header THT male 2x30 (header for tht mounting / pitch = 2.54mm)
footprint Header THT male 2x30 RA (right angle header for tht mounting / pitch = 2.54mm)
pins: 1, 2, 3, 4, 5, 6, 7, 8, 9, 10, 11, 12, 13, 14, 15, 16, 17, 18, 19, 20, 21, 22, 23, 24, 25, 26, 27, 28, 29, 30, 31, 32, 33, 34, 35, 36, 37, 38, 39, 40, 41, 42, 43, 44, 45, 46, 47, 48, 49, 50, 51, 52, 53, 54, 55, 56, 57, 58, 59, 60

## Header 80
designator X?, comment 80 pole header
board to board header; LatestRevisionDate: 02.05.2019; Publisher: ICT Berufsbildungscenter AG
footprint Header SMD Male 2x40 H (male header for smd mounting / pitch = 2.54mm / hand soldering)
footprint Header SMD Male 2x40 R (male header for smd mounting / pitch = 2.54mm / reflow soldering)
footprint Header THT female 2x40 (header for tht mounting / pitch = 2.54mm)
footprint Header THT female 2x40 RA (right angled header for tht mounting / pitch = 2.54mm)
footprint Header THT male 2x40 (header for tht mounting / pitch = 2.54mm)
footprint Header THT male 2x40 RA (right angle header for tht mounting / pitch = 2.54mm)
pins: 1, 2, 3, 4, 5, 6, 7, 8, 9, 10, 11, 12, 13, 14, 15, 16, 17, 18, 19, 20, 21, 22, 23, 24, 25, 26, 27, 28, 29, 30, 31, 32, 33, 34, 35, 36, 37, 38, 39, 40, 41, 42, 43, 44, 45, 46, 47, 48, 49, 50, 51, 52, 53, 54, 55, 56, 57, 58, 59, 60, 61, 62, 63, 64, 65, 66, 67, 68, 69, 70, 71, 72, 73, 74, 75, 76, 77, 78, 79, 80

## HV-5RGB25
designator P?
RGB LED THT; LatestRevisionDate: 03.04.2019; Publisher: ICT Berufsbildungscenter AG; Supplier 1: Mouser; Supplier Part Number 1: 743-HV-5RGB25
footprint LED 5mm RGB (LED for tht mounting with 5mm diameter)
pins: 1 Blue Anode, 2 Red Anode, 3 Common Cathode, 4 Green Anode
text: B; R; G

## I2C_mini_SMD
designator X?  (value not drawn)
SMD Pads for Ribbon Cable
footprint I2C Mini SMD
footprint I2C Micro SMD
footprint Phoenix 4Pos Header (MFR. 1778780)
pins: 1 VCC, 2 SCL, 3 SDA, 4 GND

## ICSP
designator X?  (value not drawn)
footprint 5Pin_Header
pins: 1 MCLR, 2 VDD, 3 GND, 4 DAT, 5 CLK

## ICSP Header PK
designator X?, comment ICSP PICkit
footprint ICSP TC2030
pins: 1 MCLR, 2 TRGT_VCC, 3 GND, 4 PGD, 5 PGC

## INA181A3IDBVR
designator U?
26V, bi-directional, 350kHz current sense amplifier 6-SOT-23 -40 to 125; MF: Texas Instruments; MP: INA181A3IDBVR; DigiKey-Purchase-URL: https://snapeda.com/shop?store=DigiKey&id=1129639; Texas_Instruments-Purchase-URL: https://snapeda.com/shop?store=Texas+Instruments&id=1129639; Package: SOT-23-6 Texas Instruments; Availability: Unavailable; Value: *; Mouser-Purchase-URL: https://snapeda.com/shop?store=Mouser&id=1129639; SnapEDA_Link: https://www.snapeda.com/parts/INA181A3IDBVR/Texas%20Instruments/view-part/1129639/?ref=snap; Price: None
footprint SOT23-6
pins: 1 OUT (out), 2 GND (power), 3 IN+ (in), 4 IN- (in), 5 REF (in), 6 VS (io)

## Inductor
designator L?  value 10µH  (hidden comment: Inductor)
Type: Typ; LatestRevisionDate: 05.04.2019; Publisher: ICT Berufsbildungscenter AG
footprint INDM4532X32M (Molded Inductor, 2-Leads, Body 4.50x3.20mm, IPC Low Density)
pins: 1, 2

## IRF610PBF
designator K?  (value not drawn)
MOSFET N-Channel in TO-220 package; Supplier 1: Mouser; Supplier Part Number 1: 844-IRF610PBF
footprint TO-220
pins: 1 G, 2 D, 3 S

## IRF9510PBF
designator K?  (value not drawn)
MOSFET P-Channel  in TO-220 package; Supplier 1: Mouser; Supplier Part Number 1: 844-IRF9510PBF
footprint TO-220
pins: 1 G, 2 D, 3 S

## IRM-60-12
designator K?
Enclosed AC DC Converters 1 Uitgang 12V 5A 85 ~ 264 VAC Input; MF: MEAN WELL; Digi-Key_Part_Number: 1866-3063-ND; Package: DIP-4 Mean Well; MP: IRM-60-12; SnapEDA_Link: https://www.snapeda.com/parts/IRM-60-12/MEAN%20WELL%20USA%20Inc./view-part/421622/?ref=snap; Digi-Key_Purchase_URL: https://www.digikey.com/product-detail/en/mean-well-usa-inc/IRM-60-12/1866-3063-ND/7704688?utm_source=snapeda&utm_medium=aggregator&utm_campaign=symbol; Value: *
footprint CONV_IRM-60-12
pins: +V (out), -V (out), AC/L (in), AC/N (in)

## Jumper
designator X?
LatestRevisionDate: 17-Jul-2002; LatestRevisionNote: Re-released for DXP Platform.; Publisher: Altium Limited
footprint Jumper
pins: 1, 2, 3

## Kippschalter
designator S?, comment Kippschalter On-Off-(On)
Published: 24-Mar-1999; LatestRevisionDate: 17-Jul-2002; LatestRevisionNote: Re-released for DXP Platform.; PackageReference: SPST-2; Publisher: Altium Limited; PackageDescription: Switch; 2 Leads
footprint Kippschalter
pins: 1 (On), 2 Common, 3 On

## LD1117DT33
designator K?
Published: 24-Aug-2001; LatestRevisionDate: 17-Jul-2002; LatestRevisionNote: Re-released for DXP Platform.; DatasheetVersion: Feb-1999; Publisher: Altium Limited; ComponentLink1URL: http://www.st.com/
footprint DPAK
pins: 1 GND (power), 2 OUT (power), 3 IN (power)

## LED
designator P?
Light emitting diode; LatestRevisionDate: 03.04.2019; Publisher: ICT Berufsbildungscenter AG
footprint LED 3mm blue (LED for tht mounting with 3mm diameter)
footprint LED 3mm green (LED for tht mounting with 3mm diameter)
footprint LED 3mm red (LED for tht mounting with 3mm diameter)
footprint LED 3mm yellow (LED for tht mounting with 3mm diameter)
footprint LED 5mm blue (LED for tht mounting with 5mm diameter)
footprint LED 5mm green (LED for tht mounting with 5mm diameter)
footprint LED 5mm red (LED for tht mounting with 5mm diameter)
footprint LED 5mm yellow (LED for tht mounting with 5mm diameter)
footprint LED 1206 blue H (SMD LED for hand soldering)
footprint LED 1206 blue R (SMD LED for reflow soldering)
footprint LED 1206 green H (SMD LED for hand soldering)
footprint LED 1206 green R (SMD LED for reflow soldering)
footprint LED 1206 red H (SMD LED)
footprint LED 1206 red R (SMD LED for reflow soldering)
footprint LED 1206 yellow H (SMD LED for hand soldering)
footprint LED 1206 yellow R (SMD LED for reflow soldering)
pins: A Anode, C Cathode

## LED_1
designator P?, comment LED
Typical INFRARED GaAs LED; Published: 8-Jun-2000; LatestRevisionDate: 08-Jul-2005; LatestRevisionNote: Mech Layer 1 removed.; PackageReference: LED-0; Publisher: Altium Limited; PackageDescription: LED; 2 Leads
simulation model LED0 (Diode)
footprint LED
pins: 1 A, 2 K

## LM358DR
designator K?
Dual OPAMP; Supplier 1: Mouser; Supplier Part Number 1: 863-LM358DR2G
footprint SOIC-8 N H (Narrow (150mil) SOIC with 8 pins for hand soldering)
footprint SOIC-8 N R (Narrow (150mil) SOIC with 8 pins for reflow soldering)
part A pins: 1 OUT1 (out), 2 IN1- (in), 3 IN1+ (in), 4 V- (power), 8 V+ (power)
part B pins: 5 IN2+ (in), 6 IN2- (in), 7 OUT2 (out)

## LM2596SX-5.0
designator K?  (value not drawn)
5V 3A Outrput, / Vin < 40V; MF: Texas Instruments; MP: LM2576SX-3.3/NOPB; SnapEDA_Link: https://www.snapeda.com/parts/LM2576SX-3.3/NOPB/Texas%20Instruments/view-part/506520/?ref=snap; Value: *; Texas_Instruments-Purchase-URL: https://snapeda.com/shop?store=Texas+Instruments&id=506520; Price: None; Availability: Good; Mouser-Purchase-URL: https://snapeda.com/shop?store=Mouser&id=506520; Package: TO-263-5 Texas Instruments; DigiKey-Purchase-URL: https://snapeda.com/shop?store=DigiKey&id=506520
footprint TO-263-5 (SMD)
pins: 1 VIN (in), 2 OUTPUT (out), 3 GROUND (power), 4 FEEDBACK (in), 5 ~{ON!/OFF} (in), 6 TAB_GND (power)

## LM2931CMX/NOPB
designator T?
Linear voltage regulator adjustable output voltage / 100mA SOIC-8; Supplier 1: Mouser; Supplier Part Number 1: 926-LM2931CMX/NOPB
footprint SOIC-8 N H (Narrow (150mil) SOIC with 8 pins for hand soldering)
footprint SOIC-8 N R (Narrow (150mil) SOIC with 8 pins for reflow soldering)
pins: 1 OUT, 2 GND, 3 GND, 4 ADJ, 5 ON/OFF, 6 GND, 7 GND, 8 IN

## LM2931CT/NOPB
designator T?
Linear voltage regulator adjustable output voltage / 100mA TO-220-5; Supplier 1: Mouser; Supplier Part Number 1: 926-LM2931CT/NOPB
footprint TO-220-5
pins: 1 ADJUST, 2 ON/OFF, 3 GND, 4 IN, 5 OUT

## LM22674
designator K?, comment LM22674-5.0
footprint DDA (Small Outline; 8 Leads; Body Width 3.9 mm; Pitch 1.27 mm)
pins: 1 Boot, 4 Feedback, 5 EN, 6 GND, 7 Vin, 8 Switch

## LP2950-33LPRE3
designator T?
Linear voltage regulator 3.3V / 100mA TO-92; Supplier 1: Mouser; Supplier Part Number 1: 595-LP2950-33LPRE3
footprint TO-92
pins: 1 OUT, 2 GND, 3 IN

## LP2950-50LPRE3
designator T?
Linear voltage regulator 5V / 100mA TO-92; Supplier 1: Mouser; Supplier Part Number 1: 595-LP2950-50LPRE3
footprint TO-92
pins: 1 OUT, 2 GND, 3 IN

## LTL-30EFJ
designator P?
RG LED THT; LatestRevisionDate: 03.04.2019; Publisher: ICT Berufsbildungscenter AG; Supplier 1: Mouser; Supplier Part Number 1: 859-LTL-30EFJ
footprint LED 5mm dual (LED for tht mounting with 5mm diameter)
pins: 1 Red Anode, 2 Common Cathode, 3 Green Anode
text: G; R

## MAX5035BUSA+
designator T?
Buck-converter 5V/1A SOIC-8; Supplier 1: Mouser; Supplier Part Number 1: 700-MAX5035BUSA
footprint SOIC-8 N H (Narrow (150mil) SOIC with 8 pins for hand soldering)
footprint SOIC-8 N R (Narrow (150mil) SOIC with 8 pins for reflow soldering)
pins: 1 BST, 2 VD, 3 SGND, 4 FB, 5 ON/~{OFF}, 6 GND, 7 VIN, 8 LX

## MC14543BD
designator K?
BCD-to-7-Segment Latch/Decoder/Driver for Liquid Crystals; Published: 15-Apr-2002; LatestRevisionDate: 13-Apr-2006; LatestRevisionNote: IPC-7351 Footprint Added.; DatasheetVersion: 1995; PackageVersion: Oct-1999; PackageReference: 751B-05; Publisher: Altium Limited; PackageDescription: 16-Pin Small Outline Integrated Circuit 1.27 mm Pitch; Code_JEDEC: MS-012-AC; Code_IPC: SOIC127P600-16; ComponentLink1Description: Manufacturer Link; ComponentLink1URL: http://www.onsemi.com/; ComponentLink2Description: Datasheet; ComponentLink2URL: http://www.onsemi.com/pub/Collateral/MC14543B-D.PDF
footprint SO-16 (Small Outline; 16 Leads; Body Width 3.9 mm; Pitch 1.27 mm)
pins: 1 LD (in), 2 C (in), 3 B (in), 4 D (in), 5 A (in), 6 PH (in), 7 BI (in), 8 GND (power), 9 a (out), 10 b (out), 11 c (out), 12 d (out), 13 e (out), 14 g (out), 15 f (out), 16 VDD (power)

## MCP601-I/P
designator K?
OPAMP Single 2.7-5.5V; Supplier 1: Mouser; Supplier Part Number 1: 579-MCP601IP
footprint DIP8-300 (DIP8 300mil width)
pins: 1 NC hidden, 1 VOUT (out), 2 VSS (power), 3 VIN+ (in), 4 VIN- (in), 5 NC hidden, 5 VDD (power), 8 NC hidden

## MCP1525T-I/TT
designator K?
2.5V Voltage Reference, 3-Pin SOT-23, Industrial Temperature, Tape and Reel; Published: 29-Jan-2009; DatasheetVersion: revB, Feb-2005; PackageVersion: revBB, Aug-2009; PackageReference: SOT-23-TT3; Publisher: Altium Limited; PackageDescription: 3-Lead Plastic Small Outline Transistor (TT) [SOT-23]; Supplier 1: Digi-Key; Supplier Part Number 1: MCP1525T-I/TTTR-ND; Supplier 2: Digi-Key; Supplier Part Number 2: MCP1525T-I/TTCT-ND; Supplier 3: Digi-Key; Supplier Part Number 3: MCP1525T-I/TTDKR-ND; Supplier 4: Farnell; Supplier Part Number 4: 9771212; Supplier 5: Farnell; Supplier Part Number 5: 9758500; Code_IPC: SOT23-3; ComponentLink1Description: Datasheet; ComponentLink1URL: http://ww1.microchip.com/downloads/en/DeviceDoc/21653b.pdf; ComponentLink2Description: Packaging Specification; ComponentLink2URL: http://www.microchip.com/stellent/groups/techpub_sg/documents/packagingspec/en012702.pdf; ComponentLink3Description: Microchip.com Home; ComponentLink3URL: http://www.microchip.com/
footprint SOT23-3
pins: 1 IN (power), 2 OUT (power), 3 VSS (power)

## MCP2200
designator K?, comment MCP2200-I/SO
footprint TSSOP-20 (SSOP, Plastic; 20 Leads; Body Width 5.3 mm; Pitch 0.65 mm)
pins: 1 VDD, 2 OSC1, 3 OSC2, 4 ~{RST}, 5 GP7/TxLED, 6 GP6/RxLED, 7 GP5, 8 GP4, 9 GP3, 10 TX, 11 ~{RTS}, 12 RX, 13 ~{CTS}, 14 GP2, 15 GP1/USBCFG, 16 GP0/SSPND, 17 VUSB, 18 D-, 19 D+, 20 VSS

## MCP4562-503E/MS
designator K?
Digital POT; MP: MCP4562-503E/MS; Package: None; Price: None; Value: *; Availability: Unavailable
footprint 8-MSOP (TSSOP-8 for hand soldering)
pins: 1 HVC/A0 (in), 2 SCL (in), 3 SDA (io), 4 VSS (power), 5 P0B, 6 P0W, 7 A1 (in), 8 VDD (power)

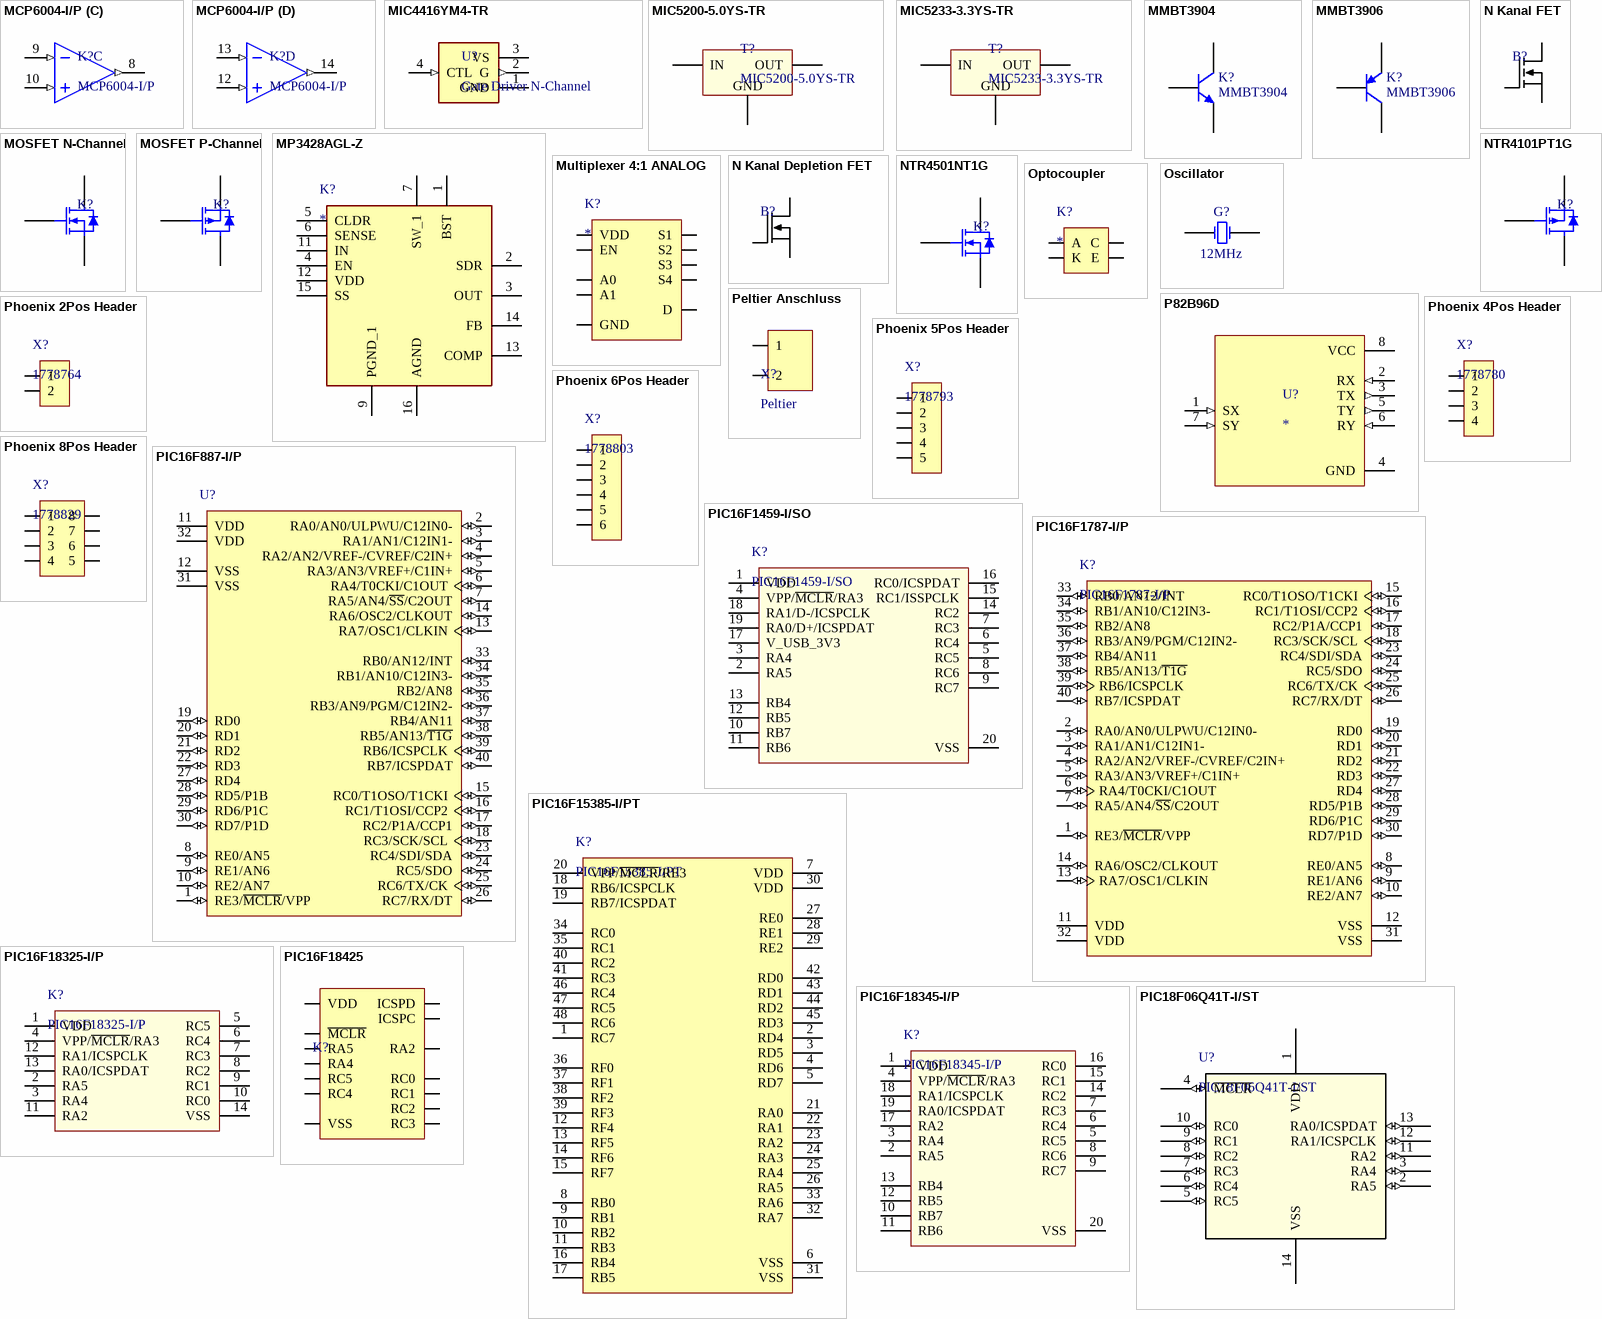
[diagram p3: symbols MCP6004-I/P to PIC18F06Q41T-I/ST]

## MCP6004-I/P
designator K?
Quad OPAMP / Single Supply 1.8-6.3V / Rail to Rail; Supplier 1: Mouser; Supplier Part Number 1: 579-MCP6004-I/P
footprint DIP14-300 (DIP14 300mil width)
part A pins: 1 VOUTA (out), 2 VINA- (in), 3 VINA+ (in), 4 VCC (power), 11 GND (power)
part B pins: 5 VINB+ (in), 6 VINB- (in), 7 VOUTB (out)
part C pins: 8 VOUTC (out), 9 VINC- (in), 10 VINC+ (in)
part D pins: 12 VIND+ (in), 13 VIND- (in), 14 VOUTD (out)

## MIC4416YM4-TR
designator U?, comment Gate Driver N-Channel
Low-Side Gate Driver IC Non-Inverting SOT-143; MF: Microchip; MP: MIC4416YM4-TR; SnapEDA_Link: https://www.snapeda.com/parts/MIC4416YM4-TR/Microchip/view-part/548230/?ref=snap; Purchase-URL: https://pricing.snapeda.com/search/part/MIC4416YM4-TR/?ref=eda; Availability: Good; Price: None; Package: SOT-143 Microchip; Check_prices: https://www.snapeda.com/parts/MIC4416YM4-TR/Microchip/view-part/548230/?ref=eda; Value: *
footprint SOT190P237X118-4N (Gate Driver N-Channel)
pins: 1 GND (power), 2 G (out), 3 VS (power), 4 CTL (in)

## MIC5200-5.0YS-TR
designator T?
Linear voltage regulator 5V / 100mA SOT-223; Supplier 1: Mouser; Supplier Part Number 1: 998-MIC5200-5.0YSTR
footprint SOT223
pins: 1 IN, 2 GND, 3 OUT, 4 GND

## MIC5233-3.3YS-TR
designator T?
Linear voltage regulator 3.3V / 100mA SOT-223; Supplier 1: Mouser; Supplier Part Number 1: 998-MIC5233-3.3YSTR
footprint SOT223
pins: 1 IN, 2 GND, 3 OUT, 4 GND

## MMBT3904
designator K?
NPN Bipolar Transistor; Published: 8-Jun-2000; LatestRevisionDate: 17-Jul-2002; LatestRevisionNote: Re-released for DXP Platform.; PackageReference: TO-226-AA; Publisher: Altium Limited; PackageDescription: TO, Flat Index; 3 In-Line, Axial Leads; Body Dia. 4.8mm; Leads 0.55 x 0.51 mm (max); Code_JEDEC: TO-226-AA
simulation model NPN
signal-integrity model NPN
footprint SOT23-3
pins: 1 B, 2 E, 3 C

## MMBT3906
designator K?
PNP Bipolar Transistor; Published: 8-Jun-2000; LatestRevisionDate: 29-May-2009; LatestRevisionNote: IPC-7351 Footprint Added.; PackageVersion: Aug-1999; PackageReference: SOT-23B; Publisher: Altium Limited; PackageDescription: 3-Pin SOT-23 Package 0.95 mm Pitch, 2.4 mm Lead Span
simulation model PNP
signal-integrity model PNP
footprint SOT23-3
pins: 1 B, 2 E, 3 C

## MOSFET N-Channel
designator K?  (value not drawn)
pins: 1 G, 2 S, 3 D

## MOSFET P-Channel
designator K?  (value not drawn)
pins: 1 G, 2 S, 3 D

## MP3428AGL-Z
designator K?
Integrated Circuit; Manufacturer_Name: Monolithic Power Systems (MPS); Manufacturer_Part_Number: MP3428AGL-Z; Datasheet Link: https://www.monolithicpower.com/pub/media/document/MP3428A_r1.1.pdf; Height: 1mm; Mouser Part Number: 946-MP3428AGL-Z; Mouser Price/Stock: https://www.mouser.co.uk/ProductDetail/Monolithic-Power-Systems-MPS/MP3428AGL-Z?qs=CjgjetG5vV4bW7v%2FcrCYZQ%3D%3D
footprint MP9184AGLP (Schaltregler ADJ 19A)
pins: 1 BST, 2 SDR, 3 OUT, 4 EN, 5 CLDR, 6 SENSE, 7 SW_1, 9 PGND_1, 11 IN, 12 VDD, 13 COMP, 14 FB, 15 SS, 16 AGND

## Multiplexer 4:1 ANALOG
designator K?
ADG804YRMZ
footprint 10-MSOP
pins: 1 A0, 2 S1, 3 GND, 4 S3, 5 EN, 6 VDD, 7 S4, 8 D, 9 S2, 10 A1

## N Kanal Depletion FET
designator B?  (value not drawn)
footprint SOT23-3
footprint PowerPak SO-8
pins: 1 Gate, 2 Source, 3 Drain

## N Kanal FET
designator B?  (value not drawn)
footprint SOT23-3
footprint PowerPak SO-8
pins: 1 Gate, 2 Source, 3 Drain

## NTR4101PT1G
designator K?  (value not drawn)
MOSFET P-Channel in SOT23-3 package; Supplier 1: Mouser; Supplier Part Number 1: 863-NTR4101PT1G
footprint SOT23-3
pins: 1 G, 2 S, 3 D